# Altium footprint library SO.PcbLib: 21 footprints (part 1 of 2)
Each footprint in its own frame and in the unit in brackets; x right, y up, seen from the top. Pads: shape width x height; smd on the part's side, far side on the other; paste and mask are expansions set on the pad; w line width, h text height; cw(c..) or ccw(c..) is an arc to the next point about the centre after c.
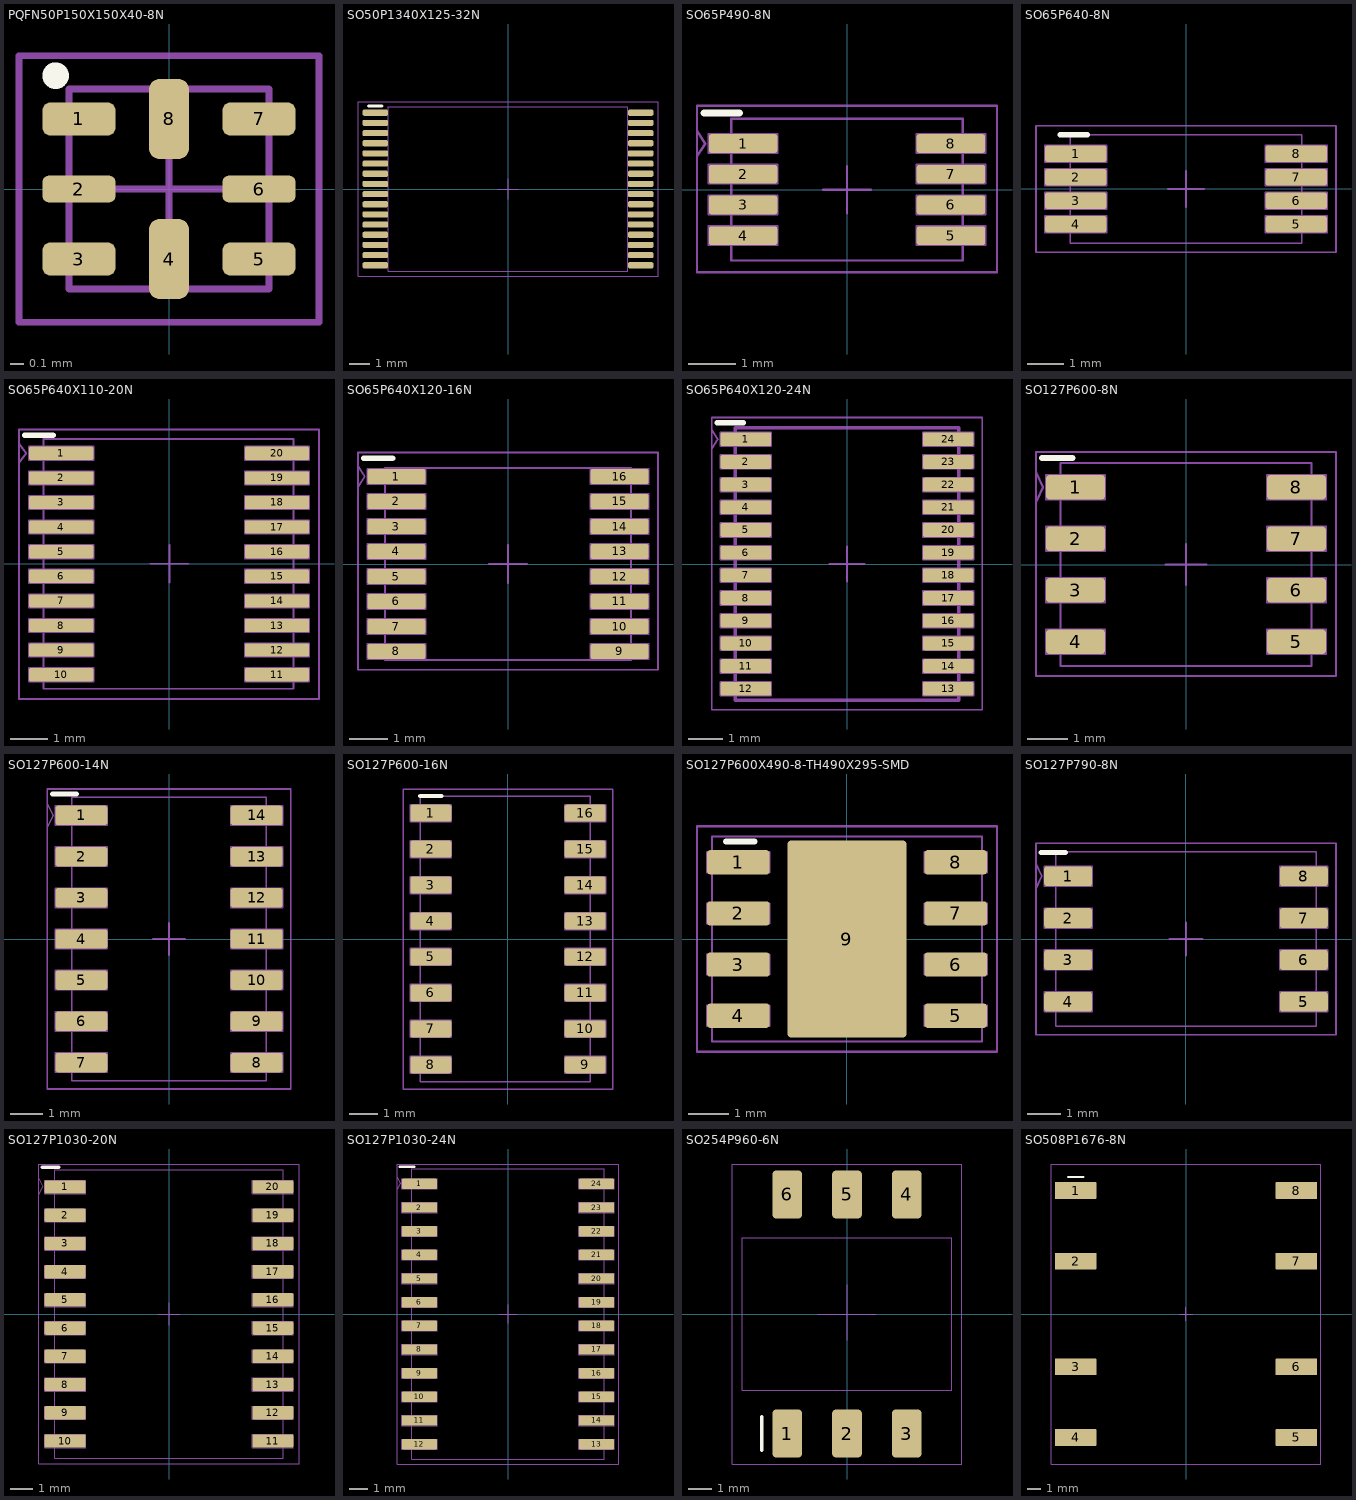
[diagram p0: the footprints below, top view; thin cyan lines are the x and y axes]

## PQFN50P150X150X40-8N [mm] "PQFN, 8-Leads, Body 1.50x1.50mm, Pitch 0.50mm, IPC Medium Density"
height 0.4
pads (8):
  rrect50% 0.55x0.25 smd mask+0.05: 1(-0.675,0.525) 3(-0.675,-0.525) 5(0.675,-0.525) 7(0.675,0.525)
  rrect50% 0.55x0.2 smd mask+0.05: 2(-0.675,0) 6(0.675,0)
  rrect50% 0.3x0.6 smd mask+0.05: 4(0,-0.525) 8(0,0.525)
Top Overlay:
  circle w0.1: c-0.85,0.85 r0.05
Top Courtyard:
  lines w0.05: -0.5,0 0.5,0 ; 0,-0.5 0,0.5 ; -1.125,-1 -1.125,1 1.125,1 1.125,-1 -1.125,-1
Top Assembly:
  lines w0.05: -0.75,-0.75 -0.75,0.75 0.75,0.75 0.75,-0.75 -0.75,-0.75
3D body "PQFN50P150X150X40-8N.step": height 0.4, standoff 0, extent -0.75,-0.75 0.75,0.75

## SO50P1340X125-32N [mm] "TSSOP, 32-Leads, Body 8.10x11.80mm, Pitch 0.50mm, IPC Medium Density"
height 1.25
pads (32):
  rrect50% 1.25x0.3 smd mask+0.05: 1(-6.525,3.75) 2(-6.525,3.25) 3(-6.525,2.75) 4(-6.525,2.25) 5(-6.525,1.75) 6(-6.525,1.25) 7(-6.525,0.75) 8(-6.525,0.25) 9(-6.525,-0.25) 10(-6.525,-0.75) 11(-6.525,-1.25) 12(-6.525,-1.75) 13(-6.525,-2.25) 14(-6.525,-2.75) 15(-6.525,-3.25) 16(-6.525,-3.75) 17(6.525,-3.75) 18(6.525,-3.25) 19(6.525,-2.75) 20(6.525,-2.25) 21(6.525,-1.75) 22(6.525,-1.25) 23(6.525,-0.75) 24(6.525,-0.25) 25(6.525,0.25) 26(6.525,0.75) 27(6.525,1.25) 28(6.525,1.75) 29(6.525,2.25) 30(6.525,2.75) 31(6.525,3.25) 32(6.525,3.75)
Top Overlay:
  lines w0.15: -6.85,4.075 -6.2,4.075
Top Courtyard:
  lines w0.05: -0.5,0 0.5,0 ; 0,-0.5 0,0.5 ; -7.375,-4.3 -7.375,4.3 7.375,4.3 7.375,-4.3 -7.375,-4.3
Top Assembly:
  lines w0.05: -5.9,-4.05 -5.9,4.05 5.9,4.05 5.9,-4.05 -5.9,-4.05
3D body "TSSOP50P1340X125-32N.step": height 1.25, standoff 0, extent -6.7,-4.05 6.7,4.05

## SO65P490-8N [mm] "MSOP8, 0.65MM PITCH, 4.90MM SPAN, 1.15MM HEIGHT"
height 1.15
pads (8):
  rrect25% 1.45x0.395 smd mask+0.075: 1(-2.2,0.975) 2(-2.2,0.325) 3(-2.2,-0.325) 4(-2.2,-0.975) 5(2.2,-0.975) 6(2.2,-0.325) 7(2.2,0.325) 8(2.2,0.975)
Top Overlay:
  lines w0.15: -3.025,1.625 -2.275,1.625
Top Courtyard:
  lines w0.05: -3.175,0.702 -3,0.975 -3.175,1.248 ; -0.5,0 0,0 ; 0,-0.5 0,0 ; 0,0.5 0,0 ; 0.5,0 0,0 ; -3.175,-1.75 -3.175,1.775 3.175,1.775 3.175,-1.75 -3.175,-1.75
Top Assembly:
  lines w0.05: -2.925,-1.172 -2.925,-0.777 -1.475,-0.777 -1.475,-1.172 -2.925,-1.172 ; -2.925,-0.523 -2.925,-0.128 -1.475,-0.128 -1.475,-0.523 -2.925,-0.523 ; -2.925,0.128 -2.925,0.523 -1.475,0.523 -1.475,0.128 -2.925,0.128 ; -2.925,0.777 -2.925,1.172 -1.475,1.172 -1.475,0.777 -2.925,0.777 ; -2.45,-1.5 -2.45,1.5 2.45,1.5 2.45,-1.5 -2.45,-1.5 ; 1.475,-1.172 1.475,-0.777 2.925,-0.777 2.925,-1.172 1.475,-1.172 ; 1.475,-0.523 1.475,-0.128 2.925,-0.128 2.925,-0.523 1.475,-0.523 ; 1.475,0.128 1.475,0.523 2.925,0.523 2.925,0.128 1.475,0.128 ; 1.475,0.777 1.475,1.172 2.925,1.172 2.925,0.777 1.475,0.777
  text "1" at -2.925,0.777 h0.3
3D body "MSOP8.step": height 1.15, standoff 0, extent -2.45,-1.5 2.45,1.5

## SO65P640-8N [mm] "TSOP, 8-LEADS, BODY 3.00X4.40MM, PITCH 0.65MM, IPC MEDIUM DENSITY"
height 1.1
pads (8):
  rrect25% 1.7x0.45 smd mask+0.075: 1(-3.05,0.975) 2(-3.05,0.325) 3(-3.05,-0.325) 4(-3.05,-0.975) 5(3.05,-0.975) 6(3.05,-0.325) 7(3.05,0.325) 8(3.05,0.975)
Top Overlay:
  lines w0.15: -3.475,1.5 -2.725,1.5
Top Courtyard:
  lines w0.05: -0.5,0 0,0 ; 0,-0.5 0,0 ; 0,0.5 0,0 ; 0.5,0 0,0 ; -4.15,-1.75 4.15,-1.75 4.15,1.75 -4.15,1.75 -4.15,-1.75
Top Assembly:
  lines w0.05: -3.9,-1.2 -2.2,-1.2 -2.2,-0.75 -3.9,-0.75 -3.9,-1.2 ; -3.9,-0.55 -2.2,-0.55 -2.2,-0.1 -3.9,-0.1 -3.9,-0.55 ; -3.9,0.1 -2.2,0.1 -2.2,0.55 -3.9,0.55 -3.9,0.1 ; -3.9,0.75 -2.2,0.75 -2.2,1.2 -3.9,1.2 -3.9,0.75 ; -3.2,-1.5 3.2,-1.5 3.2,1.5 -3.2,1.5 -3.2,-1.5 ; 2.2,-1.2 3.9,-1.2 3.9,-0.75 2.2,-0.75 2.2,-1.2 ; 2.2,-0.55 3.9,-0.55 3.9,-0.1 2.2,-0.1 2.2,-0.55 ; 2.2,0.1 3.9,0.1 3.9,0.55 2.2,0.55 2.2,0.1 ; 2.2,0.75 3.9,0.75 3.9,1.2 2.2,1.2 2.2,0.75
  text "1" at -3.9,0.75 h0.3
3D body "TSOP65P640X110-8N.step": height 1.1, standoff 0, extent -3.2,-1.5 3.2,1.5

## SO65P640X110-20N [mm] "TSSOP20 - PITCH 0.65MM, SPAN 6.4MM"
height 1.79
pads (20):
  rrect25% 1.7x0.35 smd mask+0.075: 1(-2.859,2.92) 2(-2.859,2.27) 3(-2.859,1.62) 4(-2.859,0.97) 5(-2.859,0.32) 6(-2.859,-0.33) 7(-2.859,-0.98) 8(-2.859,-1.63) 9(-2.859,-2.28) 10(-2.859,-2.93) 11(2.841,-2.93) 12(2.841,-2.28) 13(2.841,-1.63) 14(2.841,-0.98) 15(2.841,-0.33) 16(2.841,0.32) 17(2.841,0.97) 18(2.841,1.62) 19(2.841,2.27) 20(2.841,2.92)
Top Overlay:
  lines w0.15: -3.825,3.4 -3.075,3.4
Top Courtyard:
  lines w0.05: -3.975,2.67 -3.784,2.92 -3.975,3.17 ; -0.5,0 0,0 ; 0,-0.5 0,0 ; 0,0.5 0,0 ; 0.5,0 0,0 ; -3.975,-3.575 -3.975,3.55 3.95,3.55 3.95,-3.575 -3.975,-3.575
Top Assembly:
  lines w0.05: -3.709,-3.105 -3.709,-2.755 -2.009,-2.755 -2.009,-3.105 -3.709,-3.105 ; -3.709,-2.455 -3.709,-2.105 -2.009,-2.105 -2.009,-2.455 -3.709,-2.455 ; -3.709,-1.805 -3.709,-1.455 -2.009,-1.455 -2.009,-1.805 -3.709,-1.805 ; -3.709,-1.155 -3.709,-0.805 -2.009,-0.805 -2.009,-1.155 -3.709,-1.155 ; -3.709,-0.505 -3.709,-0.155 -2.009,-0.155 -2.009,-0.505 -3.709,-0.505 ; -3.709,0.145 -3.709,0.495 -2.009,0.495 -2.009,0.145 -3.709,0.145 ; -3.709,0.795 -3.709,1.145 -2.009,1.145 -2.009,0.795 -3.709,0.795 ; -3.709,1.445 -3.709,1.795 -2.009,1.795 -2.009,1.445 -3.709,1.445 ; -3.709,2.095 -3.709,2.445 -2.009,2.445 -2.009,2.095 -3.709,2.095 ; -3.709,2.745 -3.709,3.095 -2.009,3.095 -2.009,2.745 -3.709,2.745 ; -3.325,-3.3 -3.325,3.3 3.275,3.3 3.275,-3.3 -3.325,-3.3 ; 1.991,-3.105 1.991,-2.755 3.691,-2.755 3.691,-3.105 1.991,-3.105 ; 1.991,-2.455 1.991,-2.105 3.691,-2.105 3.691,-2.455 1.991,-2.455 ; 1.991,-1.805 1.991,-1.455 3.691,-1.455 3.691,-1.805 1.991,-1.805 ; 1.991,-1.155 1.991,-0.805 3.691,-0.805 3.691,-1.155 1.991,-1.155 ; 1.991,-0.505 1.991,-0.155 3.691,-0.155 3.691,-0.505 1.991,-0.505 ; 1.991,0.145 1.991,0.495 3.691,0.495 3.691,0.145 1.991,0.145 ; 1.991,0.795 1.991,1.145 3.691,1.145 3.691,0.795 1.991,0.795 ; 1.991,1.445 1.991,1.795 3.691,1.795 3.691,1.445 1.991,1.445 ; 1.991,2.095 1.991,2.445 3.691,2.445 3.691,2.095 1.991,2.095 ; 1.991,2.745 1.991,3.095 3.691,3.095 3.691,2.745 1.991,2.745
  text "1" at -3.709,2.745 h0.3
3D body "SW3dPS-TSOP_20.step": height 1.79, standoff -0.05, extent -3.325,-3.3 3.275,3.3

## SO65P640X120-16N [mm] "TSSOP16, 0.65MM PITCH, 6.40MM SPAN, 1.2MM HEIGHT"
height 1.1
pads (16):
  rrect25% 1.5x0.4 smd mask+0.075: 1(-2.9,2.275) 2(-2.9,1.625) 3(-2.9,0.975) 4(-2.9,0.325) 5(-2.9,-0.325) 6(-2.9,-0.975) 7(-2.9,-1.625) 8(-2.9,-2.275) 9(2.9,-2.275) 10(2.9,-1.625) 11(2.9,-0.975) 12(2.9,-0.325) 13(2.9,0.325) 14(2.9,0.975) 15(2.9,1.625) 16(2.9,2.275)
Top Overlay:
  lines w0.15: -3.75,2.75 -3,2.75
Top Courtyard:
  lines w0.05: -3.9,2 -3.725,2.275 -3.9,2.55 ; -0.5,0 0,0 ; 0,-0.5 0,0 ; 0,0.5 0,0 ; 0.5,0 0,0 ; -3.9,-2.75 -3.9,2.9 3.9,2.9 3.9,-2.75 -3.9,-2.75
Top Assembly:
  lines w0.05: -3.65,-2.475 -3.65,-2.075 -2.15,-2.075 -2.15,-2.475 -3.65,-2.475 ; -3.65,-1.825 -3.65,-1.425 -2.15,-1.425 -2.15,-1.825 -3.65,-1.825 ; -3.65,-1.175 -3.65,-0.775 -2.15,-0.775 -2.15,-1.175 -3.65,-1.175 ; -3.65,-0.525 -3.65,-0.125 -2.15,-0.125 -2.15,-0.525 -3.65,-0.525 ; -3.65,0.125 -3.65,0.525 -2.15,0.525 -2.15,0.125 -3.65,0.125 ; -3.65,0.775 -3.65,1.175 -2.15,1.175 -2.15,0.775 -3.65,0.775 ; -3.65,1.425 -3.65,1.825 -2.15,1.825 -2.15,1.425 -3.65,1.425 ; -3.65,2.075 -3.65,2.475 -2.15,2.475 -2.15,2.075 -3.65,2.075 ; -3.2,-2.5 -3.2,2.5 3.2,2.5 3.2,-2.5 -3.2,-2.5 ; 2.15,-2.475 2.15,-2.075 3.65,-2.075 3.65,-2.475 2.15,-2.475 ; 2.15,-1.825 2.15,-1.425 3.65,-1.425 3.65,-1.825 2.15,-1.825 ; 2.15,-1.175 2.15,-0.775 3.65,-0.775 3.65,-1.175 2.15,-1.175 ; 2.15,-0.525 2.15,-0.125 3.65,-0.125 3.65,-0.525 2.15,-0.525 ; 2.15,0.125 2.15,0.525 3.65,0.525 3.65,0.125 2.15,0.125 ; 2.15,0.775 2.15,1.175 3.65,1.175 3.65,0.775 2.15,0.775 ; 2.15,1.425 2.15,1.825 3.65,1.825 3.65,1.425 2.15,1.425 ; 2.15,2.075 2.15,2.475 3.65,2.475 3.65,2.075 2.15,2.075
  text "1" at -3.65,2.075 h0.3
3D body "User Library-TSSOP-16-1.step": height 1.1, standoff 0, extent -3.2,-2.5 3.2,2.5

## SO65P640X120-24N [mm] "TSSOP24 , 6.4MM TTT  0.65MM PITCH"
height 1.213
pads (24):
  rrect25% 1.45x0.396 smd mask+0.075: 1(-2.9,3.575) 2(-2.9,2.925) 3(-2.9,2.275) 4(-2.9,1.625) 5(-2.9,0.975) 6(-2.9,0.325) 7(-2.9,-0.325) 8(-2.9,-0.975) 9(-2.9,-1.625) 10(-2.9,-2.275) 11(-2.9,-2.925) 12(-2.9,-3.575) 13(2.9,-3.575) 14(2.9,-2.925) 15(2.9,-2.275) 16(2.9,-1.625) 17(2.9,-0.975) 18(2.9,-0.325) 19(2.9,0.325) 20(2.9,0.975) 21(2.9,1.625) 22(2.9,2.275) 23(2.9,2.925) 24(2.9,3.575)
Top Overlay:
  lines w0.15: -3.725,4.05 -2.975,4.05
Mechanical 13:
  lines w0.05: -3.625,-3.773 -3.625,-3.377 -2.175,-3.377 -2.175,-3.773 -3.625,-3.773 ; -3.625,-3.123 -3.625,-2.727 -2.175,-2.727 -2.175,-3.123 -3.625,-3.123 ; -3.625,-2.473 -3.625,-2.077 -2.175,-2.077 -2.175,-2.473 -3.625,-2.473 ; -3.625,-1.823 -3.625,-1.427 -2.175,-1.427 -2.175,-1.823 -3.625,-1.823 ; -3.625,-1.173 -3.625,-0.777 -2.175,-0.777 -2.175,-1.173 -3.625,-1.173 ; -3.625,-0.523 -3.625,-0.127 -2.175,-0.127 -2.175,-0.523 -3.625,-0.523 ; -3.625,0.127 -3.625,0.523 -2.175,0.523 -2.175,0.127 -3.625,0.127 ; -3.625,0.777 -3.625,1.173 -2.175,1.173 -2.175,0.777 -3.625,0.777 ; -3.625,1.427 -3.625,1.823 -2.175,1.823 -2.175,1.427 -3.625,1.427 ; -3.625,2.077 -3.625,2.473 -2.175,2.473 -2.175,2.077 -3.625,2.077 ; -3.625,2.727 -3.625,3.123 -2.175,3.123 -2.175,2.727 -3.625,2.727 ; -3.625,3.377 -3.625,3.773 -2.175,3.773 -2.175,3.377 -3.625,3.377 ; 2.175,-3.773 2.175,-3.377 3.625,-3.377 3.625,-3.773 2.175,-3.773 ; 2.175,-3.123 2.175,-2.727 3.625,-2.727 3.625,-3.123 2.175,-3.123 ; 2.175,-2.473 2.175,-2.077 3.625,-2.077 3.625,-2.473 2.175,-2.473 ; 2.175,-1.823 2.175,-1.427 3.625,-1.427 3.625,-1.823 2.175,-1.823 ; 2.175,-1.173 2.175,-0.777 3.625,-0.777 3.625,-1.173 2.175,-1.173 ; 2.175,-0.523 2.175,-0.127 3.625,-0.127 3.625,-0.523 2.175,-0.523 ; 2.175,0.127 2.175,0.523 3.625,0.523 3.625,0.127 2.175,0.127 ; 2.175,0.777 2.175,1.173 3.625,1.173 3.625,0.777 2.175,0.777 ; 2.175,1.427 2.175,1.823 3.625,1.823 3.625,1.427 2.175,1.427 ; 2.175,2.077 2.175,2.473 3.625,2.473 3.625,2.077 2.175,2.077 ; 2.175,2.727 2.175,3.123 3.625,3.123 3.625,2.727 2.175,2.727 ; 2.175,3.377 2.175,3.773 3.625,3.773 3.625,3.377 2.175,3.377
  lines w0.1: -3.2,-3.9 -3.2,3.9 3.2,3.9 3.2,-3.9 -3.2,-3.9
  text "1" at -3.625,3.377 h0.3
Mechanical 15:
  lines w0.05: -3.875,3.302 -3.7,3.575 -3.875,3.848 ; -0.5,0 0,0 ; 0,-0.5 0,0 ; 0,0.5 0,0 ; 0.5,0 0,0 ; -3.875,-4.175 -3.875,4.2 3.875,4.2 3.875,-4.175 -3.875,-4.175
3D body "User Library-TSSOP-24.STEP": height 1.21, standoff 0.01, extent -3.2,-3.9 3.2,3.9

## SO127P600-8N [mm] "SO8"
height 1.75
pads (8):
  rrect25% 1.45x0.6 smd mask+0.075: 1(-2.725,1.905) 2(-2.725,0.635) 3(-2.725,-0.635) 4(-2.725,-1.905) 5(2.725,-1.905) 6(2.725,-0.635) 7(2.725,0.635) 8(2.725,1.905)
Top Overlay:
  lines w0.15: -3.55,2.625 -2.8,2.625
Top Courtyard:
  lines w0.05: -3.7,1.53 -3.525,1.905 -3.7,2.28 ; -0.5,0 0,0 ; 0,-0.5 0,0 ; 0,0.5 0,0 ; 0.5,0 0,0 ; -3.7,-2.75 -3.7,2.775 3.7,2.775 3.7,-2.75 -3.7,-2.75
Top Assembly:
  lines w0.05: -3.45,-2.205 -3.45,-1.605 -2,-1.605 -2,-2.205 -3.45,-2.205 ; -3.45,-0.935 -3.45,-0.335 -2,-0.335 -2,-0.935 -3.45,-0.935 ; -3.45,0.335 -3.45,0.935 -2,0.935 -2,0.335 -3.45,0.335 ; -3.45,1.605 -3.45,2.205 -2,2.205 -2,1.605 -3.45,1.605 ; -3.1,-2.5 -3.1,2.5 3.1,2.5 3.1,-2.5 -3.1,-2.5 ; 2,-2.205 2,-1.605 3.45,-1.605 3.45,-2.205 2,-2.205 ; 2,-0.935 2,-0.335 3.45,-0.335 3.45,-0.935 2,-0.935 ; 2,0.335 2,0.935 3.45,0.935 3.45,0.335 2,0.335 ; 2,1.605 2,2.205 3.45,2.205 3.45,1.605 2,1.605
  text "1" at -3.45,1.605 h0.3
3D body "SOIC127P620X175_HS-9N.step": height 1.75, standoff 0, extent -3.1,-2.5 3.1,2.5

## SO127P600-14N [mm] "SOIC127P600X175 14N"
height 1.75
pads (14):
  rrect25% 1.6x0.6 smd mask+0.075: 1(-2.7,3.81) 2(-2.7,2.54) 3(-2.7,1.27) 4(-2.7,0) 5(-2.7,-1.27) 6(-2.7,-2.54) 7(-2.7,-3.81) 8(2.7,-3.81) 9(2.7,-2.54) 10(2.7,-1.27) 11(2.7,0) 12(2.7,1.27) 13(2.7,2.54) 14(2.7,3.81)
Top Overlay:
  lines w0.15: -3.6,4.475 -2.85,4.475
Top Courtyard:
  lines w0.05: -3.75,3.435 -3.575,3.81 -3.75,4.185 ; -0.5,0 0,0 ; 0,-0.5 0,0 ; 0,0.5 0,0 ; 0.5,0 0,0 ; -3.75,-4.625 -3.75,4.625 3.75,4.625 3.75,-4.625 -3.75,-4.625
Top Assembly:
  lines w0.05: -3.5,-4.11 -3.5,-3.51 -1.9,-3.51 -1.9,-4.11 -3.5,-4.11 ; -3.5,-2.84 -3.5,-2.24 -1.9,-2.24 -1.9,-2.84 -3.5,-2.84 ; -3.5,-1.57 -3.5,-0.97 -1.9,-0.97 -1.9,-1.57 -3.5,-1.57 ; -3.5,-0.3 -1.9,-0.3 -1.9,0.3 -3.5,0.3 -3.5,-0.3 ; -3.5,0.97 -3.5,1.57 -1.9,1.57 -1.9,0.97 -3.5,0.97 ; -3.5,2.24 -3.5,2.84 -1.9,2.84 -1.9,2.24 -3.5,2.24 ; -3.5,3.51 -3.5,4.11 -1.9,4.11 -1.9,3.51 -3.5,3.51 ; -3,-4.375 -3,4.375 3,4.375 3,-4.375 -3,-4.375 ; 1.9,-4.11 1.9,-3.51 3.5,-3.51 3.5,-4.11 1.9,-4.11 ; 1.9,-2.84 1.9,-2.24 3.5,-2.24 3.5,-2.84 1.9,-2.84 ; 1.9,-1.57 1.9,-0.97 3.5,-0.97 3.5,-1.57 1.9,-1.57 ; 1.9,-0.3 1.9,0.3 3.5,0.3 3.5,-0.3 1.9,-0.3 ; 1.9,0.97 1.9,1.57 3.5,1.57 3.5,0.97 1.9,0.97 ; 1.9,2.24 1.9,2.84 3.5,2.84 3.5,2.24 1.9,2.24 ; 1.9,3.51 1.9,4.11 3.5,4.11 3.5,3.51 1.9,3.51
  text "1" at -3.5,3.51 h0.3
3D body "User Library-SOIC-14.STEP": height 1.75, standoff 0, extent -3,-4.375 3,4.375

## SO127P600-16N [mm] "SO16"
pads (16):
  rrect25% 1.45x0.6 smd mask+0.075: 1(-2.725,4.445) 2(-2.725,3.175) 3(-2.725,1.905) 4(-2.725,0.635) 5(-2.725,-0.635) 6(-2.725,-1.905) 7(-2.725,-3.175) 8(-2.725,-4.445) 9(2.725,-4.445) 10(2.725,-3.175) 11(2.725,-1.905) 12(2.725,-0.635) 13(2.725,0.635) 14(2.725,1.905) 15(2.725,3.175) 16(2.725,4.445)
Top Overlay:
  lines w0.15: -3.1,5.05 -2.35,5.05
Top Courtyard:
  lines w0.05: -3.7,-5.3 -3.7,5.3 3.7,5.3 3.7,-5.3 -3.7,-5.3
Top Assembly:
  lines w0.05: -3.45,-4.745 -2,-4.745 -2,-4.145 -3.45,-4.145 -3.45,-4.745 ; -3.45,-3.475 -3.45,-2.875 -2,-2.875 -2,-3.475 -3.45,-3.475 ; -3.45,-2.205 -3.45,-1.605 -2,-1.605 -2,-2.205 -3.45,-2.205 ; -3.45,-0.935 -2,-0.935 -2,-0.335 -3.45,-0.335 -3.45,-0.935 ; -3.45,0.335 -2,0.335 -2,0.935 -3.45,0.935 -3.45,0.335 ; -3.45,1.605 -3.45,2.205 -2,2.205 -2,1.605 -3.45,1.605 ; -3.45,2.875 -2,2.875 -2,3.475 -3.45,3.475 -3.45,2.875 ; -3.45,4.145 -2,4.145 -2,4.745 -3.45,4.745 -3.45,4.145 ; -3.1,-5.05 -3.1,5.05 2.9,5.05 2.9,-5.05 -3.1,-5.05 ; 2,-4.745 3.45,-4.745 3.45,-4.145 2,-4.145 2,-4.745 ; 2,-3.475 3.45,-3.475 3.45,-2.875 2,-2.875 2,-3.475 ; 2,-2.205 2,-1.605 3.45,-1.605 3.45,-2.205 2,-2.205 ; 2,-0.935 3.45,-0.935 3.45,-0.335 2,-0.335 2,-0.935 ; 2,0.335 3.45,0.335 3.45,0.935 2,0.935 2,0.335 ; 2,1.605 2,2.205 3.45,2.205 3.45,1.605 2,1.605 ; 2,2.875 2,3.475 3.45,3.475 3.45,2.875 2,2.875 ; 2,4.145 3.45,4.145 3.45,4.745 2,4.745 2,4.145
  text "1" at -3.45,4.145 h0.3
3D body "SOIC127P600X135-16N.step": height 1.35, standoff 0, extent -3.1,-5.05 2.9,5.05

## SO127P600X490-8-TH490X295-SMD [mm]
pads (9):
  rrect25% 1.55x0.6 smd paste+0 mask+0.05: 1(-2.7,1.905) 2(-2.7,0.635) 3(-2.7,-0.635) 4(-2.7,-1.905) 5(2.7,-1.905) 6(2.7,-0.635) 7(2.7,0.635) 8(2.7,1.905)
  rrect6% 2.95x4.9 smd paste-1000 mask+0.05: 9(0,0)
Top Overlay:
  lines w0.15: -3,2.425 -2.3,2.425
Top Paste:
  rectangle: -1.35,-1.705 1.36,1.695
Top Courtyard:
  lines w0.05: -0.5,0 0,0 ; 0,-0.5 0,0 ; 0,0.5 0,0 ; 0.5,0 0,0 ; -3.725,-2.8 -3.725,2.8 3.725,2.8 3.725,-2.8 -3.725,-2.8
Top Assembly:
  lines w0.05: -3.475,-2.155 -3.475,-1.655 -2.875,-1.655 -1.925,-1.655 -1.925,-2.155 -3.475,-2.155 ; -3.475,-0.885 -3.475,-0.385 -2.875,-0.385 -1.925,-0.385 -1.925,-0.885 -3.475,-0.885 ; -3.475,0.385 -3.475,0.885 -2.875,0.885 -1.925,0.885 -1.925,0.385 -3.475,0.385 ; -3.475,1.655 -3.475,2.155 -2.875,2.155 -1.925,2.155 -1.925,1.655 -3.475,1.655 ; -3.353,-2.55 -3.353,2.55 3.353,2.55 3.353,-2.55 -3.353,-2.55 ; -1.2,-1.55 -1.2,1.55 0,1.55 1.2,1.55 1.2,-1.55 -1.2,-1.55 ; 1.925,-2.155 1.925,-1.655 2.875,-1.655 3.475,-1.655 3.475,-2.155 1.925,-2.155 ; 1.925,-0.885 1.925,-0.385 2.875,-0.385 3.475,-0.385 3.475,-0.885 1.925,-0.885 ; 1.925,0.385 1.925,0.885 2.875,0.885 3.475,0.885 3.475,0.385 1.925,0.385 ; 1.925,1.655 1.925,2.155 2.875,2.155 3.475,2.155 3.475,1.655 1.925,1.655
  text "1" at -3.475,1.655 h0.5
  text "SOLDERMASK DEFINED PAD" at -2.292,-0.129 h0.5
3D body "IC_Texas_Instruments_LM3466MR-NOPB_eec.STEP": height 1.7, standoff 0, extent -3,-2.45 3,2.45

## SO127P790-8N [mm] "SO8"
height 1.75
pads (8):
  rrect25% 1.45x0.6 smd mask+0.075: 1(-3.575,1.905) 2(-3.575,0.635) 3(-3.575,-0.635) 4(-3.575,-1.905) 5(3.575,-1.905) 6(3.575,-0.635) 7(3.575,0.635) 8(3.575,1.905)
Top Overlay:
  lines w0.15: -4.4,2.625 -3.65,2.625
Top Courtyard:
  lines w0.05: -4.55,1.53 -4.375,1.905 -4.55,2.28 ; -0.5,0 0,0 ; 0,-0.5 0,0 ; 0,0.5 0,0 ; 0.5,0 0,0 ; -4.55,-2.9 4.55,-2.9 4.55,2.9 -4.55,2.9 -4.55,-2.9
Top Assembly:
  lines w0.05: -4.3,-2.205 -2.85,-2.205 -2.85,-1.605 -4.3,-1.605 -4.3,-2.205 ; -4.3,-0.935 -2.85,-0.935 -2.85,-0.335 -4.3,-0.335 -4.3,-0.935 ; -4.3,0.335 -2.85,0.335 -2.85,0.935 -4.3,0.935 -4.3,0.335 ; -4.3,1.605 -2.85,1.605 -2.85,2.205 -4.3,2.205 -4.3,1.605 ; -3.95,-2.65 3.95,-2.65 3.95,2.65 -3.95,2.65 -3.95,-2.65 ; 2.85,-2.205 4.3,-2.205 4.3,-1.605 2.85,-1.605 2.85,-2.205 ; 2.85,-0.935 4.3,-0.935 4.3,-0.335 2.85,-0.335 2.85,-0.935 ; 2.85,0.335 4.3,0.335 4.3,0.935 2.85,0.935 2.85,0.335 ; 2.85,1.605 4.3,1.605 4.3,2.205 2.85,2.205 2.85,1.605
  text "1" at -4.3,1.605 h0.3
3D body "SOIC127P800X216-8N.step": height 2.16, standoff 0, extent -4,-2.65 4,2.65

## SO127P1030-20N [mm] "SOIC, 20-LEADS, BODY 12.80X7.50MM, PITCH 1.27MM, IPC MEDIUM DENSITY"
height 2.65
pads (20):
  rrect25% 1.85x0.6 smd mask+0.075: 1(-4.675,5.715) 2(-4.675,4.445) 3(-4.675,3.175) 4(-4.675,1.905) 5(-4.675,0.635) 6(-4.675,-0.635) 7(-4.675,-1.905) 8(-4.675,-3.175) 9(-4.675,-4.445) 10(-4.675,-5.715) 11(4.675,-5.715) 12(4.675,-4.445) 13(4.675,-3.175) 14(4.675,-1.905) 15(4.675,-0.635) 16(4.675,0.635) 17(4.675,1.905) 18(4.675,3.175) 19(4.675,4.445) 20(4.675,5.715)
Top Overlay:
  lines w0.15: -5.7,6.6 -4.95,6.6
Top Courtyard:
  lines w0.05: -5.85,5.34 -5.675,5.715 -5.85,6.09 ; -0.5,0 0,0 ; 0,-0.5 0,0 ; 0,0.5 0,0 ; 0.5,0 0,0 ; -5.85,-6.75 -5.85,6.75 5.85,6.75 5.85,-6.75 -5.85,-6.75
Top Assembly:
  lines w0.05: -5.6,-6.015 -5.6,-5.415 -3.75,-5.415 -3.75,-6.015 -5.6,-6.015 ; -5.6,-4.745 -5.6,-4.145 -3.75,-4.145 -3.75,-4.745 -5.6,-4.745 ; -5.6,-3.475 -5.6,-2.875 -3.75,-2.875 -3.75,-3.475 -5.6,-3.475 ; -5.6,-2.205 -5.6,-1.605 -3.75,-1.605 -3.75,-2.205 -5.6,-2.205 ; -5.6,-0.935 -5.6,-0.335 -3.75,-0.335 -3.75,-0.935 -5.6,-0.935 ; -5.6,0.335 -5.6,0.935 -3.75,0.935 -3.75,0.335 -5.6,0.335 ; -5.6,1.605 -5.6,2.205 -3.75,2.205 -3.75,1.605 -5.6,1.605 ; -5.6,2.875 -5.6,3.475 -3.75,3.475 -3.75,2.875 -5.6,2.875 ; -5.6,4.145 -5.6,4.745 -3.75,4.745 -3.75,4.145 -5.6,4.145 ; -5.6,5.415 -5.6,6.015 -3.75,6.015 -3.75,5.415 -5.6,5.415 ; -5.15,-6.5 -5.15,6.5 5.15,6.5 5.15,-6.5 -5.15,-6.5 ; 3.75,-6.015 3.75,-5.415 5.6,-5.415 5.6,-6.015 3.75,-6.015 ; 3.75,-4.745 3.75,-4.145 5.6,-4.145 5.6,-4.745 3.75,-4.745 ; 3.75,-3.475 3.75,-2.875 5.6,-2.875 5.6,-3.475 3.75,-3.475 ; 3.75,-2.205 3.75,-1.605 5.6,-1.605 5.6,-2.205 3.75,-2.205 ; 3.75,-0.935 3.75,-0.335 5.6,-0.335 5.6,-0.935 3.75,-0.935 ; 3.75,0.335 3.75,0.935 5.6,0.935 5.6,0.335 3.75,0.335 ; 3.75,1.605 3.75,2.205 5.6,2.205 5.6,1.605 3.75,1.605 ; 3.75,2.875 3.75,3.475 5.6,3.475 5.6,2.875 3.75,2.875 ; 3.75,4.145 3.75,4.745 5.6,4.745 5.6,4.145 3.75,4.145 ; 3.75,5.415 3.75,6.015 5.6,6.015 5.6,5.415 3.75,5.415
  text "1" at -5.6,5.415 h0.3
3D body "SOIC127P1030X265-20N.step": height 2.65, standoff 0, extent -5.15,-6.5 5.15,6.5

## SO127P1030-24N [mm] "SOP, 24-LEADS, BODY 15.40X7.50MM, PITCH 1.27MM, IPC MEDIUM DENSITY"
height 2.65
pads (24):
  rrect25% 1.9x0.55 smd mask+0.075: 1(-4.75,6.985) 2(-4.75,5.715) 3(-4.75,4.445) 4(-4.75,3.175) 5(-4.75,1.905) 6(-4.75,0.635) 7(-4.75,-0.635) 8(-4.75,-1.905) 9(-4.75,-3.175) 10(-4.75,-4.445) 11(-4.75,-5.715) 12(-4.75,-6.985) 13(4.75,-6.985) 14(4.75,-5.715) 15(4.75,-4.445) 16(4.75,-3.175) 17(4.75,-1.905) 18(4.75,-0.635) 19(4.75,0.635) 20(4.75,1.905) 21(4.75,3.175) 22(4.75,4.445) 23(4.75,5.715) 24(4.75,6.985)
Top Overlay:
  lines w0.15: -5.8,7.9 -5.05,7.9
Top Courtyard:
  lines w0.05: -5.95,6.635 -5.775,6.985 -5.95,7.335 ; -0.5,0 0,0 ; 0,-0.5 0,0 ; 0,0.5 0,0 ; 0.5,0 0,0 ; -5.95,-8.05 5.95,-8.05 5.95,8.05 -5.95,8.05 -5.95,-8.05
Top Assembly:
  lines w0.05: -5.7,-7.26 -3.8,-7.26 -3.8,-6.71 -5.7,-6.71 -5.7,-7.26 ; -5.7,-5.99 -3.8,-5.99 -3.8,-5.44 -5.7,-5.44 -5.7,-5.99 ; -5.7,-4.72 -3.8,-4.72 -3.8,-4.17 -5.7,-4.17 -5.7,-4.72 ; -5.7,-3.45 -3.8,-3.45 -3.8,-2.9 -5.7,-2.9 -5.7,-3.45 ; -5.7,-2.18 -3.8,-2.18 -3.8,-1.63 -5.7,-1.63 -5.7,-2.18 ; -5.7,-0.91 -3.8,-0.91 -3.8,-0.36 -5.7,-0.36 -5.7,-0.91 ; -5.7,0.36 -3.8,0.36 -3.8,0.91 -5.7,0.91 -5.7,0.36 ; -5.7,1.63 -3.8,1.63 -3.8,2.18 -5.7,2.18 -5.7,1.63 ; -5.7,2.9 -3.8,2.9 -3.8,3.45 -5.7,3.45 -5.7,2.9 ; -5.7,4.17 -3.8,4.17 -3.8,4.72 -5.7,4.72 -5.7,4.17 ; -5.7,5.44 -3.8,5.44 -3.8,5.99 -5.7,5.99 -5.7,5.44 ; -5.7,6.71 -3.8,6.71 -3.8,7.26 -5.7,7.26 -5.7,6.71 ; -5.162,-7.8 5.162,-7.8 5.162,7.8 -5.162,7.8 -5.162,-7.8 ; 3.8,-7.26 5.7,-7.26 5.7,-6.71 3.8,-6.71 3.8,-7.26 ; 3.8,-5.99 5.7,-5.99 5.7,-5.44 3.8,-5.44 3.8,-5.99 ; 3.8,-4.72 5.7,-4.72 5.7,-4.17 3.8,-4.17 3.8,-4.72 ; 3.8,-3.45 5.7,-3.45 5.7,-2.9 3.8,-2.9 3.8,-3.45 ; 3.8,-2.18 5.7,-2.18 5.7,-1.63 3.8,-1.63 3.8,-2.18 ; 3.8,-0.91 5.7,-0.91 5.7,-0.36 3.8,-0.36 3.8,-0.91 ; 3.8,0.36 5.7,0.36 5.7,0.91 3.8,0.91 3.8,0.36 ; 3.8,1.63 5.7,1.63 5.7,2.18 3.8,2.18 3.8,1.63 ; 3.8,2.9 5.7,2.9 5.7,3.45 3.8,3.45 3.8,2.9 ; 3.8,4.17 5.7,4.17 5.7,4.72 3.8,4.72 3.8,4.17 ; 3.8,5.44 5.7,5.44 5.7,5.99 3.8,5.99 3.8,5.44 ; 3.8,6.71 5.7,6.71 5.7,7.26 3.8,7.26 3.8,6.71
  text "1" at -5.7,6.71 h0.3
3D body "SOP127P1030X265-24N.step": height 2.65, standoff 0, extent -5.162,-7.8 5.162,7.8

## SO254P960-6N [mil] "Surface Mount DIP Optocoupler  0.4 in wide"
height 141.73
pads (6):
  rrect25% 50x80 smd: 1(-100,-200) 2(0,-200) 3(100,-200) 4(100,200) 5(0,200) 6(-100,200)
Top Overlay:
  lines w5.91: -142.72,-228.35 -142.72,-172.24
Top Assembly:
  lines w1.97: -175,-128 175,-128 175,128 -175,128 -175,-128
Mechanical 15:
  lines w1.97: -49.21,0 49.21,0 ; 0,-44.29 0,49.21 ; -191.93,-250.98 191.93,-250.98 191.93,250.98 -191.93,250.98 -191.93,-250.98
3D body "DIP6-OP7.STEP": height 172.27, standoff 0.5, extent -169.29,-202.76 169.29,202.76

## SO508P1676-8N [mm]
pads (8):
  rrect8% 3x1.2 smd paste+0 mask+0.05: 1(-7.95,8.89) 2(-7.95,3.81) 3(-7.95,-3.81) 4(-7.95,-8.89) 5(7.95,-8.89) 6(7.95,-3.81) 7(7.95,3.81) 8(7.95,8.89)
Top Overlay:
  lines w0.15: -8.5,9.875 -7.375,9.875
Top Courtyard:
  lines w0.05: -0.5,0 0,0 ; 0,-0.5 0,0 ; 0,0.5 0,0 ; 0.5,0 0,0 ; -9.7,-10.8 9.7,-10.8 9.7,10.8 -9.7,10.8 -9.7,-10.8
3D body "CPC1907B.STEP": height 3.49, standoff 0.01, extent -8.382,-10.541 8.382,10.541